# EAGLE library part 50208-014 (library con-aces-50208-series)
ACES CONNECTORS 50208 SERIES ACES Connecors 50208 <https://www.acesconn.com/tw/series/50208-xxxxx-xxx/1224>
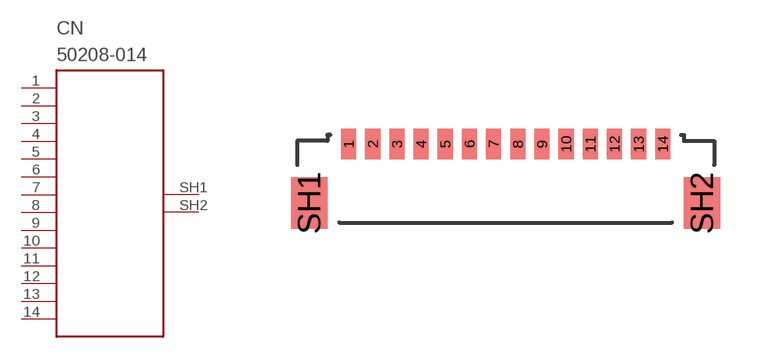
[diagram p10: symbol with the pads of 50208-014; footprint 50208-014]

Designator prefix CN

## 50208-014  [50208-014]
1  1
2  2
3  3
4  4
5  5
6  6
7  7
8  8
9  9
10  10
11  11
12  12
13  13
14  14
SH1  SH1
SH2  SH2

## Footprint 50208-014 (pad centres in mm)
smd 0.5 x 1: 1 -5.2,0; 2 -4.4,0; 3 -3.6,0; 4 -2.8,0; 5 -2,0; 6 -1.2,0; 7 -0.4,0; 8 0.4,0; 9 1.2,0; 10 2,0; 11 2.8,0; 12 3.6,0; 13 4.4,0; 14 5.2,0
smd 1.2 x 1.7: SH1 -6.5,-1.95; SH2 6.5,-1.95